# Altium integrated library Linear Technology Power Management LDO Linear Regulators.IntLib: 2339 symbols (part 18 of 131)
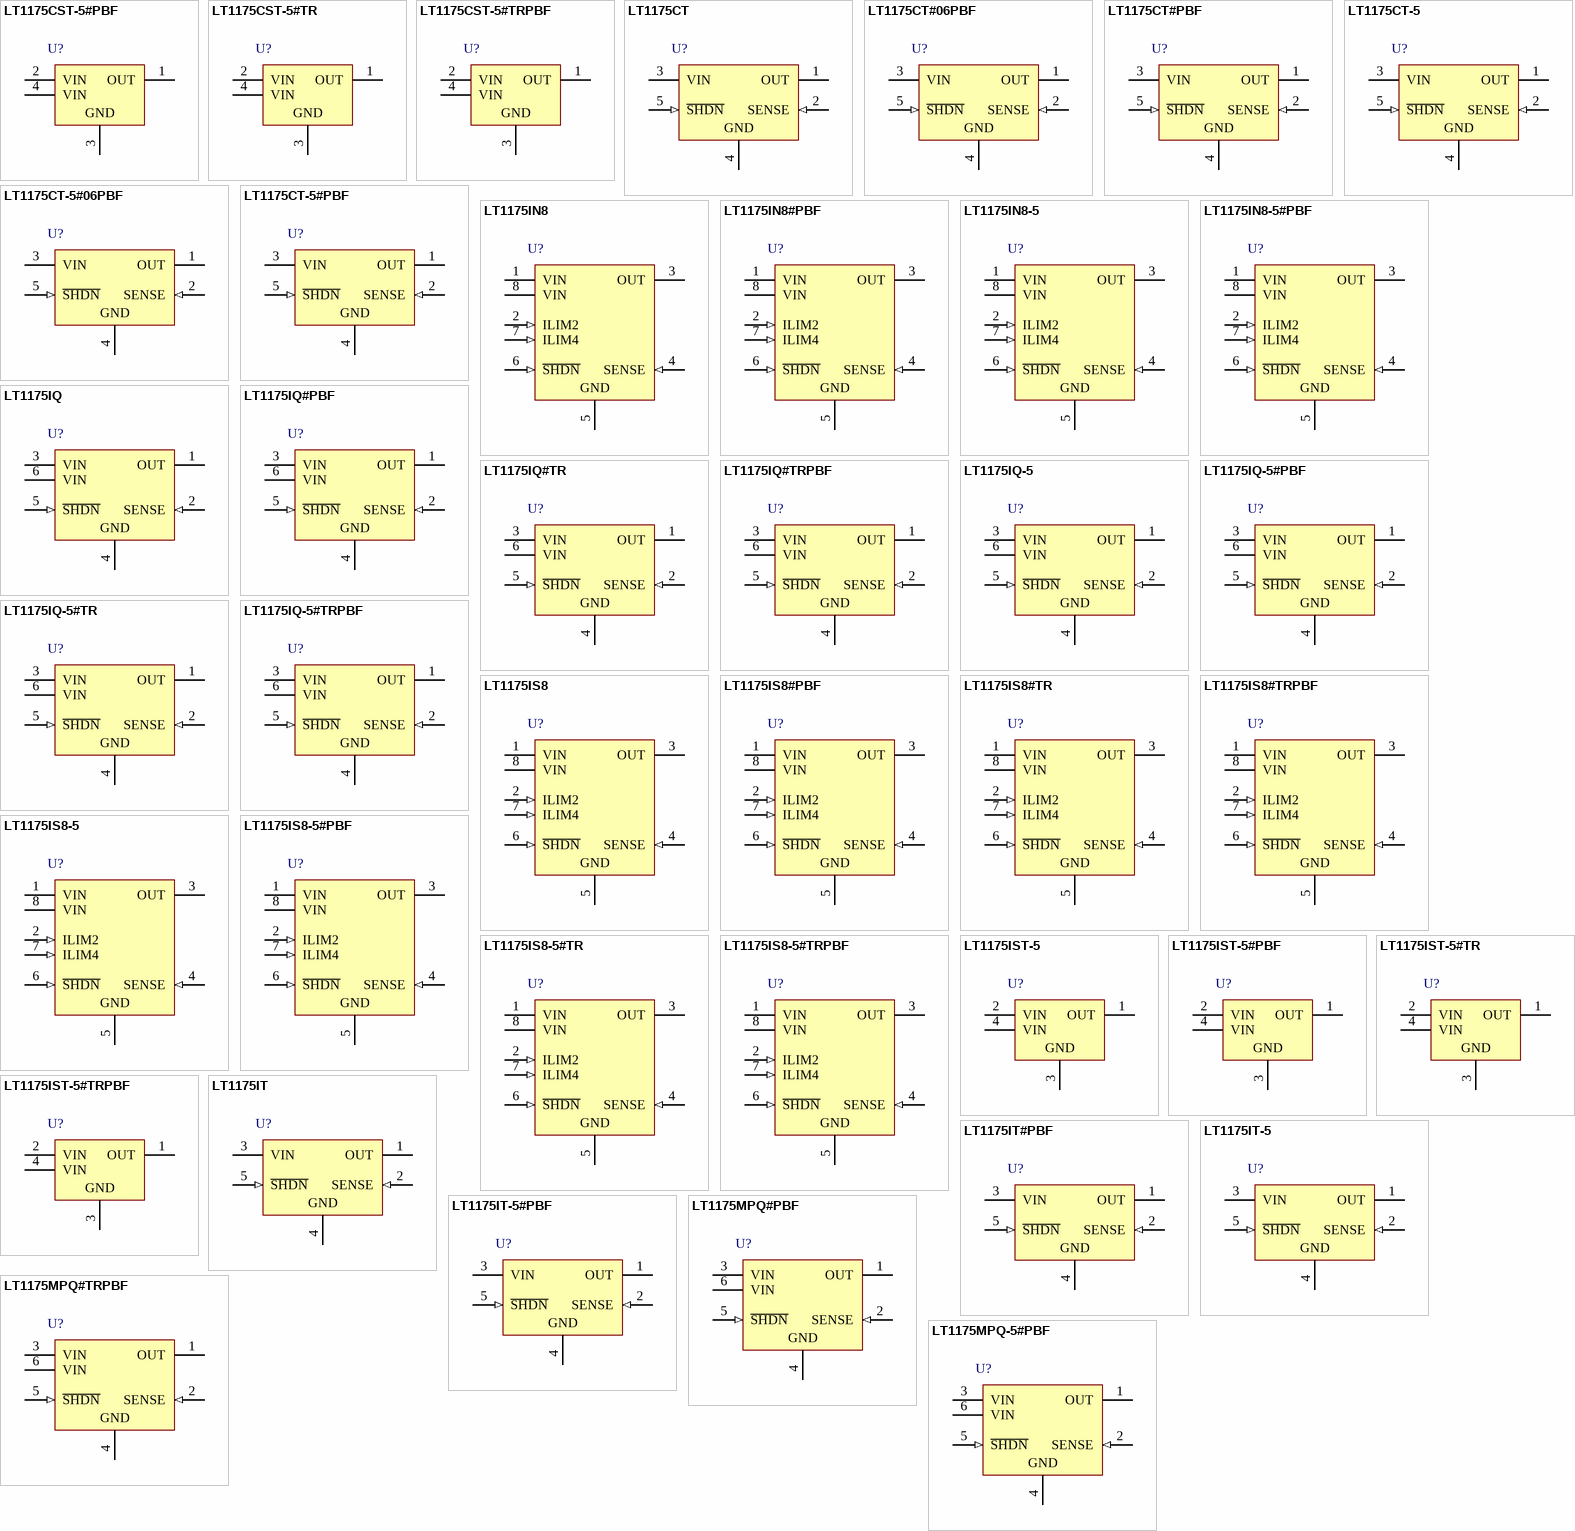
[diagram p86: symbols LT1175CST-5#PBF to LT1175MPQ-5#PBF]

## LT1175IS8-5#TR
designator U?
500 mA Negative Low Dropout Micropower Regulator, -4.3 to -20 V Vin, -5 V Vout, 8-pin SOIC (S8-8), -40 to 125 degC, Tape and Reel; Manufacturer: Linear Technology; PartNumber: LT1175IS8-5#TR; Discrete Pass Element: no; Dropout Voltage(V): 0.5; Iout(mA): 500; Isupply(mA): 0.045; Number of Outputs: 1; Output Voltage: -5 V; Shutdown Current(uA): 10; DatasheetVersion: Rev. F; PackageVersion: Rev. G, 03/2012; PackageReference: S8-8; PackageDescription: 8-Pin Plastic Small Outline (Narrow .150 Inch), Body 4.9 x 3.9 mm, Pitch 1.27 mm; Supplier 1: Digi-Key; Supplier Part Number 1: LT1175IS8-5#TR-ND; Supplier 2: Newark; Supplier Part Number 2: 57M2486; Packing: Tape and Reel; RoHS: FALSE; Vin Max(V): -4.3; Vin Min(V): -20; Mounting Technology: Surface Mount; ComponentLink1Description: Manufacturer URL; ComponentLink1URL: http://www.linear.com/; ComponentLink2Description: Datasheet; ComponentLink2URL: http://cds.linear.com/docs/en/datasheet/1175ff.pdf; ComponentLink3Description: Package Specification; ComponentLink3URL: http://cds.linear.com/docs/en/packaging/05081610_G_SO8.pdf
footprint LT-S8-8_N (SOIC, 8-Leads, Body 4.9x3.9mm, Pitch 1.27mm, IPC Medium Density)
footprint LT-S8-8_L (SOIC, 8-Leads, Body 4.9x3.9mm, Pitch 1.27mm, IPC High Density)
footprint LT-S8-8_M (SOIC, 8-Leads, Body 4.9x3.9mm, Pitch 1.27mm, IPC Low Density)
pins: 1 VIN (power) "Power is supplied to the device through this pin. A bypass  capacitor is required on this pin if the device is more than  six inches away from the main filter capacitor. In general, the impedance of a battery rises with (See Datasheet)", 2 ILIM2 (in) "The two current limit pins are emitter sections of the power transistor. When left open, they float several hundred millivolts  above the negative input voltage. When shorted to the  input voltage, they increase current limit (See Datasheet)", 3 OUT (power) "The OUTPUT pin  is the collector of the NPN power transistor. It can be forced to the input voltage, to ground or up to 2V positive with respect to ground without damage or latchup (see Output  Voltage Reversal in (See Datasheet)", 4 SENSE (in) "The SENSE pin is used in the adjustable version to allow custom selection of output voltage, with an external divider set to generate 3.8V at the SENSE pin. Input bias current is typically 75nA  flowing out of the pin. (See Datasheet)", 5 GND (power) "The GND pin has a quiescent current of 45uA at zero load current, increasing by approximately 10uA per mA of output current. At 500mA output current, GND pin current is about 5mA. Current ?ows into the GND pin.", 6 ~{SHDN} (in) "The S\H\D\N\ pin is  specially configured to allow it to be driven from either positive voltage logic or with negative only logic. Forcing the S\H\D\N\ pin 2V either above or below the GND pin will turn the regulator on. This (See Datasheet)", 7 ILIM4 (in) "The two current limit pins are emitter sections of the power transistor. When left open, they float several hundred millivolts  above the negative input voltage. When shorted to the  input voltage, they increase current limit (See Datasheet)", 8 VIN (power) "Power is supplied to the device through this pin. A bypass  capacitor is required on this pin if the device is more than  six inches away from the main filter capacitor. In general, the impedance of a battery rises with (See Datasheet)"

## LT1175IS8-5#TRPBF
designator U?
500 mA Negative Low Dropout Micropower Regulator, -4.3 to -20 V Vin, -5 V Vout, 8-pin SOIC (S8-8), -40 to 125 degC, Pb-Free, Tape and Reel; Manufacturer: Linear Technology; PartNumber: LT1175IS8-5#TRPBF; Discrete Pass Element: no; Dropout Voltage(V): 0.5; Iout(mA): 500; Isupply(mA): 0.045; Number of Outputs: 1; Output Voltage: -5 V; Shutdown Current(uA): 10; DatasheetVersion: Rev. F; PackageVersion: Rev. G, 03/2012; PackageReference: S8-8; PackageDescription: 8-Pin Plastic Small Outline (Narrow .150 Inch), Body 4.9 x 3.9 mm, Pitch 1.27 mm; Supplier 1: Digi-Key; Supplier Part Number 1: LT1175IS8-5#TRPBF-ND; Supplier 2: Newark; Supplier Part Number 2: 57M2487; Packing: Tape and Reel; RoHS: TRUE; Vin Max(V): -4.3; Vin Min(V): -20; Mounting Technology: Surface Mount; ComponentLink1Description: Manufacturer URL; ComponentLink1URL: http://www.linear.com/; ComponentLink2Description: Datasheet; ComponentLink2URL: http://cds.linear.com/docs/en/datasheet/1175ff.pdf; ComponentLink3Description: Package Specification; ComponentLink3URL: http://cds.linear.com/docs/en/packaging/05081610_G_SO8.pdf
footprint LT-S8-8_N (SOIC, 8-Leads, Body 4.9x3.9mm, Pitch 1.27mm, IPC Medium Density)
footprint LT-S8-8_L (SOIC, 8-Leads, Body 4.9x3.9mm, Pitch 1.27mm, IPC High Density)
footprint LT-S8-8_M (SOIC, 8-Leads, Body 4.9x3.9mm, Pitch 1.27mm, IPC Low Density)
pins: 1 VIN (power) "Power is supplied to the device through this pin. A bypass  capacitor is required on this pin if the device is more than  six inches away from the main filter capacitor. In general, the impedance of a battery rises with (See Datasheet)", 2 ILIM2 (in) "The two current limit pins are emitter sections of the power transistor. When left open, they float several hundred millivolts  above the negative input voltage. When shorted to the  input voltage, they increase current limit (See Datasheet)", 3 OUT (power) "The OUTPUT pin  is the collector of the NPN power transistor. It can be forced to the input voltage, to ground or up to 2V positive with respect to ground without damage or latchup (see Output  Voltage Reversal in (See Datasheet)", 4 SENSE (in) "The SENSE pin is used in the adjustable version to allow custom selection of output voltage, with an external divider set to generate 3.8V at the SENSE pin. Input bias current is typically 75nA  flowing out of the pin. (See Datasheet)", 5 GND (power) "The GND pin has a quiescent current of 45uA at zero load current, increasing by approximately 10uA per mA of output current. At 500mA output current, GND pin current is about 5mA. Current ?ows into the GND pin.", 6 ~{SHDN} (in) "The S\H\D\N\ pin is  specially configured to allow it to be driven from either positive voltage logic or with negative only logic. Forcing the S\H\D\N\ pin 2V either above or below the GND pin will turn the regulator on. This (See Datasheet)", 7 ILIM4 (in) "The two current limit pins are emitter sections of the power transistor. When left open, they float several hundred millivolts  above the negative input voltage. When shorted to the  input voltage, they increase current limit (See Datasheet)", 8 VIN (power) "Power is supplied to the device through this pin. A bypass  capacitor is required on this pin if the device is more than  six inches away from the main filter capacitor. In general, the impedance of a battery rises with (See Datasheet)"

## LT1175IST-5
designator U?
500 mA Negative Low Dropout Micropower Regulator, -4.3 to -20 V Vin, -5 V Vout, 3-pin SOT223 (ST-3), -40 to 125 degC; Manufacturer: Linear Technology; PartNumber: LT1175IST-5; Discrete Pass Element: no; Dropout Voltage(V): 0.5; Iout(mA): 500; Isupply(mA): 0.045; Number of Outputs: 1; Output Voltage: -5 V; Shutdown Current(uA): 10; DatasheetVersion: Rev. F; PackageVersion: Jun-10; PackageReference: ST-3; PackageDescription: 3-Pin Plastic SOT-223, 3.505 x 6.505 mm Body, Pitch 2.3 mm; Supplier 1: Digi-Key; Supplier Part Number 1: LT1175IST-5-ND; Supplier 2: Newark; Supplier Part Number 2: 57M2479; RoHS: FALSE; Vin Max(V): -4.3; Vin Min(V): -20; Mounting Technology: Surface Mount; ComponentLink1Description: Manufacturer URL; ComponentLink1URL: http://www.linear.com/; ComponentLink2Description: Datasheet; ComponentLink2URL: http://cds.linear.com/docs/en/datasheet/1175ff.pdf; ComponentLink3Description: Package Specification; ComponentLink3URL: http://cds.linear.com/docs/en/packaging/SOT_3_05-08-1630.pdf
footprint LT-ST-3-SOT-223_N (SOT223, 4-Leads, Body 6.505x3.505mm, Pitch 2.3mm, IPC Medium Density)
footprint LT-ST-3-SOT-223_L (SOT223, 4-Leads, Body 6.505x3.505mm, Pitch 2.3mm, IPC High Density)
footprint LT-ST-3-SOT-223_M (SOT223, 4-Leads, Body 6.505x3.505mm, Pitch 2.3mm, IPC Low Density)
pins: 1 OUT (power) "The OUTPUT pin is the collector of the NPN power transistor. It can be forced to the input voltage, to ground or up to 2V positive with respect to ground without damage or latchup (see Output Voltage Reversal in Applications (See Datasheet)", 2 VIN (power) "Power is supplied to the device through this pin. A bypass capacitor is required on this pin if the device is more than six inches away from the main filter capacitor. In general, the impedance of a battery rises with (See Datasheet)", 3 GND (power) "The GND pin has a quiescent current of 45uA at zero load current, increasing by approximately 10uA per mA of output current. At 500mA output current, GND pin current is about 5mA. Current flows into the GND pin.", 4 VIN (power) "Power is supplied to the device through this pin. A bypass capacitor is required on this pin if the device is more than six inches away from the main filter capacitor. In general, the impedance of a battery rises with (See Datasheet)"

## LT1175IST-5#PBF
designator U?
500 mA Negative Low Dropout Micropower Regulator, -4.3 to -20 V Vin, -5 V Vout, 3-pin SOT223 (ST-3), -40 to 125 degC, Pb-Free; Manufacturer: Linear Technology; PartNumber: LT1175IST-5#PBF; Discrete Pass Element: no; Dropout Voltage(V): 0.5; Iout(mA): 500; Isupply(mA): 0.045; Number of Outputs: 1; Output Voltage: -5 V; Shutdown Current(uA): 10; DatasheetVersion: Rev. F; PackageVersion: Jun-10; PackageReference: ST-3; PackageDescription: 3-Pin Plastic SOT-223, 3.505 x 6.505 mm Body, Pitch 2.3 mm; Supplier 1: Digi-Key; Supplier Part Number 1: LT1175IST-5#PBF-ND; Supplier 2: Farnell; Supplier Part Number 2: 1663391; Supplier 3: Newark; Supplier Part Number 3: 57M2480; RoHS: TRUE; Vin Max(V): -4.3; Vin Min(V): -20; Mounting Technology: Surface Mount; ComponentLink1Description: Manufacturer URL; ComponentLink1URL: http://www.linear.com/; ComponentLink2Description: Datasheet; ComponentLink2URL: http://cds.linear.com/docs/en/datasheet/1175ff.pdf; ComponentLink3Description: Package Specification; ComponentLink3URL: http://cds.linear.com/docs/en/packaging/SOT_3_05-08-1630.pdf
footprint LT-ST-3-SOT-223_N (SOT223, 4-Leads, Body 6.505x3.505mm, Pitch 2.3mm, IPC Medium Density)
footprint LT-ST-3-SOT-223_L (SOT223, 4-Leads, Body 6.505x3.505mm, Pitch 2.3mm, IPC High Density)
footprint LT-ST-3-SOT-223_M (SOT223, 4-Leads, Body 6.505x3.505mm, Pitch 2.3mm, IPC Low Density)
pins: 1 OUT (power) "The OUTPUT pin is the collector of the NPN power transistor. It can be forced to the input voltage, to ground or up to 2V positive with respect to ground without damage or latchup (see Output Voltage Reversal in Applications (See Datasheet)", 2 VIN (power) "Power is supplied to the device through this pin. A bypass capacitor is required on this pin if the device is more than six inches away from the main filter capacitor. In general, the impedance of a battery rises with (See Datasheet)", 3 GND (power) "The GND pin has a quiescent current of 45uA at zero load current, increasing by approximately 10uA per mA of output current. At 500mA output current, GND pin current is about 5mA. Current flows into the GND pin.", 4 VIN (power) "Power is supplied to the device through this pin. A bypass capacitor is required on this pin if the device is more than six inches away from the main filter capacitor. In general, the impedance of a battery rises with (See Datasheet)"

## LT1175IST-5#TR
designator U?
500 mA Negative Low Dropout Micropower Regulator, -4.3 to -20 V Vin, -5 V Vout, 3-pin SOT223 (ST-3), -40 to 125 degC, Tape and Reel; Manufacturer: Linear Technology; PartNumber: LT1175IST-5#TR; Discrete Pass Element: no; Dropout Voltage(V): 0.5; Iout(mA): 500; Isupply(mA): 0.045; Number of Outputs: 1; Output Voltage: -5 V; Shutdown Current(uA): 10; DatasheetVersion: Rev. F; PackageVersion: Jun-10; PackageReference: ST-3; PackageDescription: 3-Pin Plastic SOT-223, 3.505 x 6.505 mm Body, Pitch 2.3 mm; Supplier 1: Digi-Key; Supplier Part Number 1: LT1175IST-5#TR-ND; Packing: Tape and Reel; RoHS: FALSE; Vin Max(V): -4.3; Vin Min(V): -20; Mounting Technology: Surface Mount; ComponentLink1Description: Manufacturer URL; ComponentLink1URL: http://www.linear.com/; ComponentLink2Description: Datasheet; ComponentLink2URL: http://cds.linear.com/docs/en/datasheet/1175ff.pdf; ComponentLink3Description: Package Specification; ComponentLink3URL: http://cds.linear.com/docs/en/packaging/SOT_3_05-08-1630.pdf
footprint LT-ST-3-SOT-223_N (SOT223, 4-Leads, Body 6.505x3.505mm, Pitch 2.3mm, IPC Medium Density)
footprint LT-ST-3-SOT-223_L (SOT223, 4-Leads, Body 6.505x3.505mm, Pitch 2.3mm, IPC High Density)
footprint LT-ST-3-SOT-223_M (SOT223, 4-Leads, Body 6.505x3.505mm, Pitch 2.3mm, IPC Low Density)
pins: 1 OUT (power) "The OUTPUT pin is the collector of the NPN power transistor. It can be forced to the input voltage, to ground or up to 2V positive with respect to ground without damage or latchup (see Output Voltage Reversal in Applications (See Datasheet)", 2 VIN (power) "Power is supplied to the device through this pin. A bypass capacitor is required on this pin if the device is more than six inches away from the main filter capacitor. In general, the impedance of a battery rises with (See Datasheet)", 3 GND (power) "The GND pin has a quiescent current of 45uA at zero load current, increasing by approximately 10uA per mA of output current. At 500mA output current, GND pin current is about 5mA. Current flows into the GND pin.", 4 VIN (power) "Power is supplied to the device through this pin. A bypass capacitor is required on this pin if the device is more than six inches away from the main filter capacitor. In general, the impedance of a battery rises with (See Datasheet)"

## LT1175IST-5#TRPBF
designator U?
500 mA Negative Low Dropout Micropower Regulator, -4.3 to -20 V Vin, -5 V Vout, 3-pin SOT223 (ST-3), -40 to 125 degC, Pb-Free, Tape and Reel; Manufacturer: Linear Technology; PartNumber: LT1175IST-5#TRPBF; Discrete Pass Element: no; Dropout Voltage(V): 0.5; Iout(mA): 500; Isupply(mA): 0.045; Number of Outputs: 1; Output Voltage: -5 V; Shutdown Current(uA): 10; DatasheetVersion: Rev. F; PackageVersion: Jun-10; PackageReference: ST-3; PackageDescription: 3-Pin Plastic SOT-223, 3.505 x 6.505 mm Body, Pitch 2.3 mm; Supplier 1: Digi-Key; Supplier Part Number 1: LT1175IST-5#TRPBF-ND; Supplier 2: Newark; Supplier Part Number 2: 57M2482; Packing: Tape and Reel; RoHS: TRUE; Vin Max(V): -4.3; Vin Min(V): -20; Mounting Technology: Surface Mount; ComponentLink1Description: Manufacturer URL; ComponentLink1URL: http://www.linear.com/; ComponentLink2Description: Datasheet; ComponentLink2URL: http://cds.linear.com/docs/en/datasheet/1175ff.pdf; ComponentLink3Description: Package Specification; ComponentLink3URL: http://cds.linear.com/docs/en/packaging/SOT_3_05-08-1630.pdf
footprint LT-ST-3-SOT-223_N (SOT223, 4-Leads, Body 6.505x3.505mm, Pitch 2.3mm, IPC Medium Density)
footprint LT-ST-3-SOT-223_L (SOT223, 4-Leads, Body 6.505x3.505mm, Pitch 2.3mm, IPC High Density)
footprint LT-ST-3-SOT-223_M (SOT223, 4-Leads, Body 6.505x3.505mm, Pitch 2.3mm, IPC Low Density)
pins: 1 OUT (power) "The OUTPUT pin is the collector of the NPN power transistor. It can be forced to the input voltage, to ground or up to 2V positive with respect to ground without damage or latchup (see Output Voltage Reversal in Applications (See Datasheet)", 2 VIN (power) "Power is supplied to the device through this pin. A bypass capacitor is required on this pin if the device is more than six inches away from the main filter capacitor. In general, the impedance of a battery rises with (See Datasheet)", 3 GND (power) "The GND pin has a quiescent current of 45uA at zero load current, increasing by approximately 10uA per mA of output current. At 500mA output current, GND pin current is about 5mA. Current flows into the GND pin.", 4 VIN (power) "Power is supplied to the device through this pin. A bypass capacitor is required on this pin if the device is more than six inches away from the main filter capacitor. In general, the impedance of a battery rises with (See Datasheet)"

## LT1175IT
designator U?
500 mA Negative Low Dropout Micropower Regulator, -4.3 to -20 V Vin, Adjustable Vout, 5-pin FM (T-5), -40 to 125 degC; Manufacturer: Linear Technology; PartNumber: LT1175IT; Discrete Pass Element: no; Dropout Voltage(V): 0.5; Iout(mA): 500; Isupply(mA): 0.045; Number of Outputs: 1; Output Voltage: Adj; Shutdown Current(uA): 10; Vout Max(V): -3.8; Vout Min(V): -19.3; DatasheetVersion: Rev. F; PackageVersion: Aug-10; PackageReference: T-5; PackageDescription: 5-Pin Plastic TO-220 (Standard), Body 10.224 x 8.89 mm, Pitch 1.7 mm; Supplier 1: Digi-Key; Supplier Part Number 1: LT1175IT-ND; RoHS: FALSE; Vin Max(V): -4.3; Vin Min(V): -20; Mounting Technology: Through Hole; ComponentLink1Description: Manufacturer URL; ComponentLink1URL: http://www.linear.com/; ComponentLink2Description: Datasheet; ComponentLink2URL: http://cds.linear.com/docs/en/datasheet/1175ff.pdf; ComponentLink3Description: Package Specification; ComponentLink3URL: http://cds.linear.com/docs/en/packaging/TO-220_5_05-08-1421.pdf
footprint LT-T-5-S (FM, 5-Leads, Body 10.2235x4.3815mm, Pitch 1.7mm)
pins: 1 OUT (power) "The OUTPUT pin is the collector of the NPN power transistor. It can be forced to the input voltage, to ground or up to 2V positive with respect to ground without damage or latchup (see Output Voltage Reversal in Applications (See Datasheet)", 2 SENSE (in) "The SENSE pin is used in the adjustable version to allow custom selection of output voltage, with an external divider set to generate 3.8V at the SENSE pin. Input bias current is typically 75nA flowing out of the pin. (See Datasheet)", 3 VIN (power) "Power is supplied to the device through this pin. A bypass capacitor is required on this pin if the device is more than six inches away from the main filter capacitor. In general, the impedance of a battery rises with (See Datasheet)", 4 GND (power) "The GND pin has a quiescent current of 45uA at zero load current, increasing by approximately 10uA per mA of output current. At 500mA output current, GND pin current is about 5mA. Current flows into the GND pin.", 5 ~{SHDN} (in) "The S\H\D\N\ pin is specially configured to allow it to be driven from either positive voltage logic or with negative only logic. Forcing the S\H\D\N\ pin 2V either above or below the GND pin will turn the regulator on. This (See Datasheet)"

## LT1175IT#PBF
designator U?
500 mA Negative Low Dropout Micropower Regulator, -4.3 to -20 V Vin, Adjustable Vout, 5-pin FM (T-5), -40 to 125 degC, Pb-Free; Manufacturer: Linear Technology; PartNumber: LT1175IT#PBF; Discrete Pass Element: no; Dropout Voltage(V): 0.5; Iout(mA): 500; Isupply(mA): 0.045; Number of Outputs: 1; Output Voltage: Adj; Shutdown Current(uA): 10; Vout Max(V): -3.8; Vout Min(V): -19.3; DatasheetVersion: Rev. F; PackageVersion: Aug-10; PackageReference: T-5; PackageDescription: 5-Pin Plastic TO-220 (Standard), Body 10.224 x 8.89 mm, Pitch 1.7 mm; Supplier 1: Digi-Key; Supplier Part Number 1: LT1175IT#PBF-ND; Supplier 2: Newark; Supplier Part Number 2: 57M2494; RoHS: TRUE; Vin Max(V): -4.3; Vin Min(V): -20; Mounting Technology: Through Hole; ComponentLink1Description: Manufacturer URL; ComponentLink1URL: http://www.linear.com/; ComponentLink2Description: Datasheet; ComponentLink2URL: http://cds.linear.com/docs/en/datasheet/1175ff.pdf; ComponentLink3Description: Package Specification; ComponentLink3URL: http://cds.linear.com/docs/en/packaging/TO-220_5_05-08-1421.pdf
footprint LT-T-5-S (FM, 5-Leads, Body 10.2235x4.3815mm, Pitch 1.7mm)
pins: 1 OUT (power) "The OUTPUT pin is the collector of the NPN power transistor. It can be forced to the input voltage, to ground or up to 2V positive with respect to ground without damage or latchup (see Output Voltage Reversal in Applications (See Datasheet)", 2 SENSE (in) "The SENSE pin is used in the adjustable version to allow custom selection of output voltage, with an external divider set to generate 3.8V at the SENSE pin. Input bias current is typically 75nA flowing out of the pin. (See Datasheet)", 3 VIN (power) "Power is supplied to the device through this pin. A bypass capacitor is required on this pin if the device is more than six inches away from the main filter capacitor. In general, the impedance of a battery rises with (See Datasheet)", 4 GND (power) "The GND pin has a quiescent current of 45uA at zero load current, increasing by approximately 10uA per mA of output current. At 500mA output current, GND pin current is about 5mA. Current flows into the GND pin.", 5 ~{SHDN} (in) "The S\H\D\N\ pin is specially configured to allow it to be driven from either positive voltage logic or with negative only logic. Forcing the S\H\D\N\ pin 2V either above or below the GND pin will turn the regulator on. This (See Datasheet)"

## LT1175IT-5
designator U?
500 mA Negative Low Dropout Micropower Regulator, -4.3 to -20 V Vin, -5 V Vout, 5-pin FM (T-5), -40 to 125 degC; Manufacturer: Linear Technology; PartNumber: LT1175IT-5; Discrete Pass Element: no; Dropout Voltage(V): 0.5; Iout(mA): 500; Isupply(mA): 0.045; Number of Outputs: 1; Output Voltage: -5 V; Shutdown Current(uA): 10; DatasheetVersion: Rev. F; PackageVersion: Aug-10; PackageReference: T-5; PackageDescription: 5-Pin Plastic TO-220 (Standard), Body 10.224 x 8.89 mm, Pitch 1.7 mm; Supplier 1: Digi-Key; Supplier Part Number 1: LT1175IT-5-ND; RoHS: FALSE; Vin Max(V): -4.3; Vin Min(V): -20; Mounting Technology: Through Hole; ComponentLink1Description: Manufacturer URL; ComponentLink1URL: http://www.linear.com/; ComponentLink2Description: Datasheet; ComponentLink2URL: http://cds.linear.com/docs/en/datasheet/1175ff.pdf; ComponentLink3Description: Package Specification; ComponentLink3URL: http://cds.linear.com/docs/en/packaging/TO-220_5_05-08-1421.pdf
footprint LT-T-5-S (FM, 5-Leads, Body 10.2235x4.3815mm, Pitch 1.7mm)
pins: 1 OUT (power) "The OUTPUT pin is the collector of the NPN power transistor. It can be forced to the input voltage, to ground or up to 2V positive with respect to ground without damage or latchup (see Output Voltage Reversal in Applications (See Datasheet)", 2 SENSE (in) "The SENSE pin is used in the adjustable version to allow custom selection of output voltage, with an external divider set to generate 3.8V at the SENSE pin. Input bias current is typically 75nA flowing out of the pin. (See Datasheet)", 3 VIN (power) "Power is supplied to the device through this pin. A bypass capacitor is required on this pin if the device is more than six inches away from the main filter capacitor. In general, the impedance of a battery rises with (See Datasheet)", 4 GND (power) "The GND pin has a quiescent current of 45uA at zero load current, increasing by approximately 10uA per mA of output current. At 500mA output current, GND pin current is about 5mA. Current flows into the GND pin.", 5 ~{SHDN} (in) "The S\H\D\N\ pin is specially configured to allow it to be driven from either positive voltage logic or with negative only logic. Forcing the S\H\D\N\ pin 2V either above or below the GND pin will turn the regulator on. This (See Datasheet)"

## LT1175IT-5#PBF
designator U?
500 mA Negative Low Dropout Micropower Regulator, -4.3 to -20 V Vin, -5 V Vout, 5-pin FM (T-5), -40 to 125 degC, Pb-Free; Manufacturer: Linear Technology; PartNumber: LT1175IT-5#PBF; Discrete Pass Element: no; Dropout Voltage(V): 0.5; Iout(mA): 500; Isupply(mA): 0.045; Number of Outputs: 1; Output Voltage: -5 V; Shutdown Current(uA): 10; DatasheetVersion: Rev. F; PackageVersion: Aug-10; PackageReference: T-5; PackageDescription: 5-Pin Plastic TO-220 (Standard), Body 10.224 x 8.89 mm, Pitch 1.7 mm; Supplier 1: Digi-Key; Supplier Part Number 1: LT1175IT-5#PBF-ND; RoHS: TRUE; Vin Max(V): -4.3; Vin Min(V): -20; Mounting Technology: Through Hole; ComponentLink1Description: Manufacturer URL; ComponentLink1URL: http://www.linear.com/; ComponentLink2Description: Datasheet; ComponentLink2URL: http://cds.linear.com/docs/en/datasheet/1175ff.pdf; ComponentLink3Description: Package Specification; ComponentLink3URL: http://cds.linear.com/docs/en/packaging/TO-220_5_05-08-1421.pdf
footprint LT-T-5-S (FM, 5-Leads, Body 10.2235x4.3815mm, Pitch 1.7mm)
pins: 1 OUT (power) "The OUTPUT pin is the collector of the NPN power transistor. It can be forced to the input voltage, to ground or up to 2V positive with respect to ground without damage or latchup (see Output Voltage Reversal in Applications (See Datasheet)", 2 SENSE (in) "The SENSE pin is used in the adjustable version to allow custom selection of output voltage, with an external divider set to generate 3.8V at the SENSE pin. Input bias current is typically 75nA flowing out of the pin. (See Datasheet)", 3 VIN (power) "Power is supplied to the device through this pin. A bypass capacitor is required on this pin if the device is more than six inches away from the main filter capacitor. In general, the impedance of a battery rises with (See Datasheet)", 4 GND (power) "The GND pin has a quiescent current of 45uA at zero load current, increasing by approximately 10uA per mA of output current. At 500mA output current, GND pin current is about 5mA. Current flows into the GND pin.", 5 ~{SHDN} (in) "The S\H\D\N\ pin is specially configured to allow it to be driven from either positive voltage logic or with negative only logic. Forcing the S\H\D\N\ pin 2V either above or below the GND pin will turn the regulator on. This (See Datasheet)"

## LT1175MPQ#PBF
designator U?
500 mA Negative Low Dropout Micropower Regulator, -4.3 to -20 V Vin, Adjustable Vout, 5-pin DPAK (Q-5), -55 to 125 degC, Pb-Free; Manufacturer: Linear Technology; PartNumber: LT1175MPQ#PBF; Discrete Pass Element: no; Dropout Voltage(V): 0.5; Iout(mA): 500; Isupply(mA): 0.045; Number of Outputs: 1; Output Voltage: Adj; Shutdown Current(uA): 10; Vout Max(V): -3.8; Vout Min(V): -19.3; DatasheetVersion: Rev. F; PackageVersion: Rev. F, 09/2011; PackageReference: Q-5; PackageDescription: 5-Pin Plastic DD Pak, Body 10.2235 x 8.89 mm, Pitch 1.702 mm; Supplier 1: Digi-Key; Supplier Part Number 1: LT1175MPQ#PBF-ND; Supplier 2: Farnell; Supplier Part Number 2: 1847481; Supplier 3: Newark; Supplier Part Number 3: 84R5017; RoHS: TRUE; Vin Max(V): -4.3; Vin Min(V): -20; Mounting Technology: Surface Mount; ComponentLink1Description: Manufacturer URL; ComponentLink1URL: http://www.linear.com/; ComponentLink2Description: Datasheet; ComponentLink2URL: http://cds.linear.com/docs/en/datasheet/1175ff.pdf; ComponentLink3Description: Package Specification; ComponentLink3URL: http://cds.linear.com/docs/en/packaging/Q%20DD5%2005-08-1461%20Rev%20F.pdf
footprint LT-Q-5_N (DPAK, 5-Leads, Body 10.22x8.89mm, Pitch 1.702mm, IPC Medium Density)
footprint LT-Q-5_L (DPAK, 5-Leads, Body 10.22x8.89mm, Pitch 1.702mm, IPC High Density)
footprint LT-Q-5_M (DPAK, 5-Leads, Body 10.22x8.89mm, Pitch 1.702mm, IPC Low Density)
pins: 1 OUT (power) "The OUTPUT pin is the collector of the NPN power transistor. It can be forced to the input voltage, to ground or up to 2V positive with respect to ground without damage or latchup (see Output Voltage Reversal in Applications (See Datasheet)", 2 SENSE (in) "The SENSE pin is used in the adjustable version to allow custom selection of output voltage, with an external divider set to generate 3.8V at the SENSE pin. Input bias current is typically 75nA flowing out of the pin. (See Datasheet)", 3 VIN (power) "Power is supplied to the device through this pin. A bypass capacitor is required on this pin if the device is more than six inches away from the main filter capacitor. In general, the impedance of a battery rises with (See Datasheet)", 4 GND (power) "The GND pin has a quiescent current of 45uA at zero load current, increasing by approximately 10uA per mA of output current. At 500mA output current, GND pin current is about 5mA. Current flows into the GND pin.", 5 ~{SHDN} (in) "The S\H\D\N\ pin is specially configured to allow it to be driven from either positive voltage logic or with negative only logic. Forcing the S\H\D\N\ pin 2V either above or below the GND pin will turn the regulator on. This (See Datasheet)", 6 VIN (power) "Power is supplied to the device through this pin. A bypass capacitor is required on this pin if the device is more than six inches away from the main filter capacitor. In general, the impedance of a battery rises with (See Datasheet)"

## LT1175MPQ#TRPBF
designator U?
500 mA Negative Low Dropout Micropower Regulator, -4.3 to -20 V Vin, Adjustable Vout, 5-pin DPAK (Q-5), -55 to 125 degC, Pb-Free, Tape and Reel; Manufacturer: Linear Technology; PartNumber: LT1175MPQ#TRPBF; Discrete Pass Element: no; Dropout Voltage(V): 0.5; Iout(mA): 500; Isupply(mA): 0.045; Number of Outputs: 1; Output Voltage: Adj; Shutdown Current(uA): 10; Vout Max(V): -3.8; Vout Min(V): -19.3; DatasheetVersion: Rev. F; PackageVersion: Rev. F, 09/2011; PackageReference: Q-5; PackageDescription: 5-Pin Plastic DD Pak, Body 10.2235 x 8.89 mm, Pitch 1.702 mm; Supplier 1: Digi-Key; Supplier Part Number 1: LT1175MPQ#TRPBF-ND; Packing: Tape and Reel; RoHS: TRUE; Vin Max(V): -4.3; Vin Min(V): -20; Mounting Technology: Surface Mount; ComponentLink1Description: Manufacturer URL; ComponentLink1URL: http://www.linear.com/; ComponentLink2Description: Datasheet; ComponentLink2URL: http://cds.linear.com/docs/en/datasheet/1175ff.pdf; ComponentLink3Description: Package Specification; ComponentLink3URL: http://cds.linear.com/docs/en/packaging/Q%20DD5%2005-08-1461%20Rev%20F.pdf
footprint LT-Q-5_N (DPAK, 5-Leads, Body 10.22x8.89mm, Pitch 1.702mm, IPC Medium Density)
footprint LT-Q-5_L (DPAK, 5-Leads, Body 10.22x8.89mm, Pitch 1.702mm, IPC High Density)
footprint LT-Q-5_M (DPAK, 5-Leads, Body 10.22x8.89mm, Pitch 1.702mm, IPC Low Density)
pins: 1 OUT (power) "The OUTPUT pin is the collector of the NPN power transistor. It can be forced to the input voltage, to ground or up to 2V positive with respect to ground without damage or latchup (see Output Voltage Reversal in Applications (See Datasheet)", 2 SENSE (in) "The SENSE pin is used in the adjustable version to allow custom selection of output voltage, with an external divider set to generate 3.8V at the SENSE pin. Input bias current is typically 75nA flowing out of the pin. (See Datasheet)", 3 VIN (power) "Power is supplied to the device through this pin. A bypass capacitor is required on this pin if the device is more than six inches away from the main filter capacitor. In general, the impedance of a battery rises with (See Datasheet)", 4 GND (power) "The GND pin has a quiescent current of 45uA at zero load current, increasing by approximately 10uA per mA of output current. At 500mA output current, GND pin current is about 5mA. Current flows into the GND pin.", 5 ~{SHDN} (in) "The S\H\D\N\ pin is specially configured to allow it to be driven from either positive voltage logic or with negative only logic. Forcing the S\H\D\N\ pin 2V either above or below the GND pin will turn the regulator on. This (See Datasheet)", 6 VIN (power) "Power is supplied to the device through this pin. A bypass capacitor is required on this pin if the device is more than six inches away from the main filter capacitor. In general, the impedance of a battery rises with (See Datasheet)"

## LT1175MPQ-5#PBF
designator U?
500 mA Negative Low Dropout Micropower Regulator, -4.3 to -20 V Vin, -5 V Vout, 5-pin DPAK (Q-5), -55 to 125 degC, Pb-Free; Manufacturer: Linear Technology; PartNumber: LT1175MPQ-5#PBF; Discrete Pass Element: no; Dropout Voltage(V): 0.5; Iout(mA): 500; Isupply(mA): 0.045; Number of Outputs: 1; Output Voltage: -5 V; Shutdown Current(uA): 10; DatasheetVersion: Rev. F; PackageVersion: Rev. F, 09/2011; PackageReference: Q-5; PackageDescription: 5-Pin Plastic DD Pak, Body 10.2235 x 8.89 mm, Pitch 1.702 mm; Supplier 1: Digi-Key; Supplier Part Number 1: LT1175MPQ-5#PBF-ND; Supplier 2: Farnell; Supplier Part Number 2: 1847482; Supplier 3: Newark; Supplier Part Number 3: 84R5015; RoHS: TRUE; Vin Max(V): -4.3; Vin Min(V): -20; Mounting Technology: Surface Mount; ComponentLink1Description: Manufacturer URL; ComponentLink1URL: http://www.linear.com/; ComponentLink2Description: Datasheet; ComponentLink2URL: http://cds.linear.com/docs/en/datasheet/1175ff.pdf; ComponentLink3Description: Package Specification; ComponentLink3URL: http://cds.linear.com/docs/en/packaging/Q%20DD5%2005-08-1461%20Rev%20F.pdf
footprint LT-Q-5_N (DPAK, 5-Leads, Body 10.22x8.89mm, Pitch 1.702mm, IPC Medium Density)
footprint LT-Q-5_L (DPAK, 5-Leads, Body 10.22x8.89mm, Pitch 1.702mm, IPC High Density)
footprint LT-Q-5_M (DPAK, 5-Leads, Body 10.22x8.89mm, Pitch 1.702mm, IPC Low Density)
pins: 1 OUT (power) "The OUTPUT pin is the collector of the NPN power transistor. It can be forced to the input voltage, to ground or up to 2V positive with respect to ground without damage or latchup (see Output Voltage Reversal in Applications (See Datasheet)", 2 SENSE (in) "The SENSE pin is used in the adjustable version to allow custom selection of output voltage, with an external divider set to generate 3.8V at the SENSE pin. Input bias current is typically 75nA flowing out of the pin. (See Datasheet)", 3 VIN (power) "Power is supplied to the device through this pin. A bypass capacitor is required on this pin if the device is more than six inches away from the main filter capacitor. In general, the impedance of a battery rises with (See Datasheet)", 4 GND (power) "The GND pin has a quiescent current of 45uA at zero load current, increasing by approximately 10uA per mA of output current. At 500mA output current, GND pin current is about 5mA. Current flows into the GND pin.", 5 ~{SHDN} (in) "The S\H\D\N\ pin is specially configured to allow it to be driven from either positive voltage logic or with negative only logic. Forcing the S\H\D\N\ pin 2V either above or below the GND pin will turn the regulator on. This (See Datasheet)", 6 VIN (power) "Power is supplied to the device through this pin. A bypass capacitor is required on this pin if the device is more than six inches away from the main filter capacitor. In general, the impedance of a battery rises with (See Datasheet)"

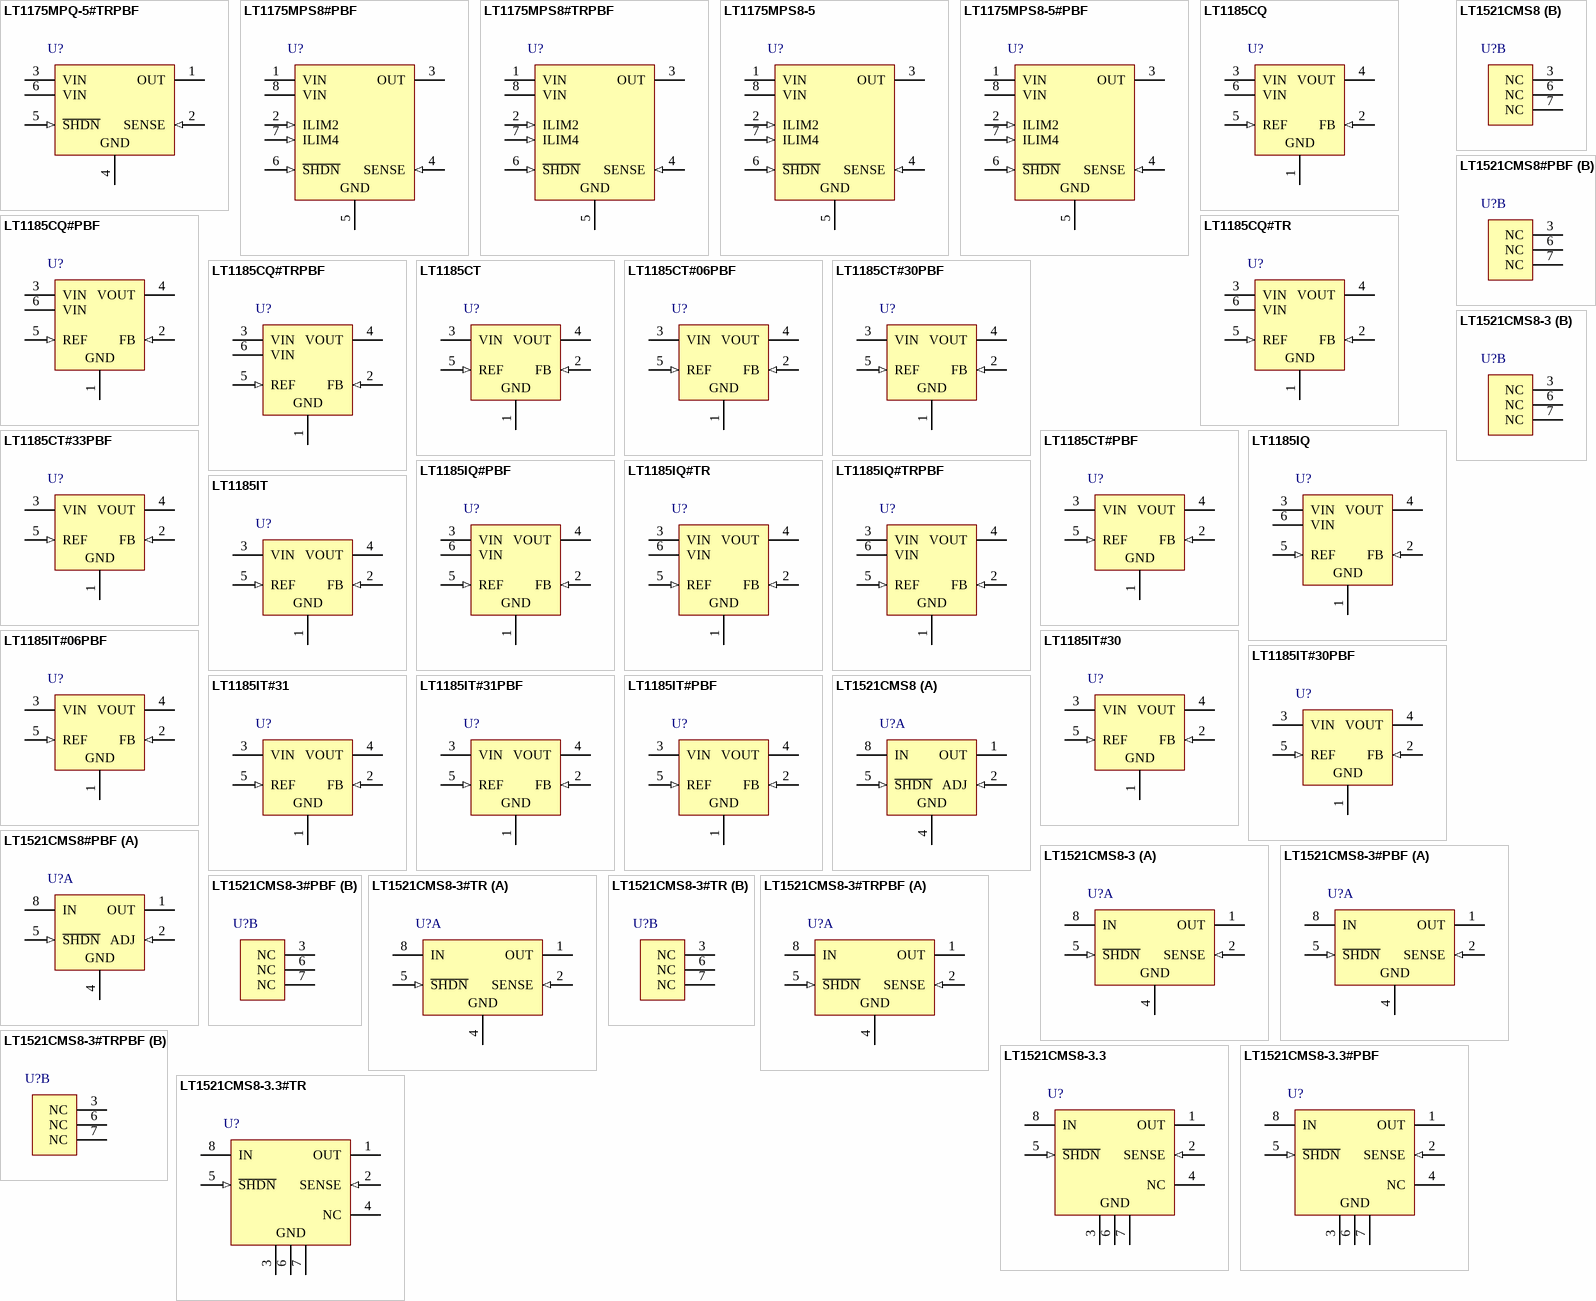
[diagram p13: symbols LT1175MPQ-5#TRPBF to LT1521CMS8-3.3#TR]

## LT1175MPQ-5#TRPBF
designator U?
500 mA Negative Low Dropout Micropower Regulator, -4.3 to -20 V Vin, -5 V Vout, 5-pin DPAK (Q-5), -55 to 125 degC, Pb-Free, Tape and Reel; Manufacturer: Linear Technology; PartNumber: LT1175MPQ-5#TRPBF; Discrete Pass Element: no; Dropout Voltage(V): 0.5; Iout(mA): 500; Isupply(mA): 0.045; Number of Outputs: 1; Output Voltage: -5 V; Shutdown Current(uA): 10; DatasheetVersion: Rev. F; PackageVersion: Rev. F, 09/2011; PackageReference: Q-5; PackageDescription: 5-Pin Plastic DD Pak, Body 10.2235 x 8.89 mm, Pitch 1.702 mm; Supplier 1: Digi-Key; Supplier Part Number 1: LT1175MPQ-5#TRPBF-ND; Packing: Tape and Reel; RoHS: TRUE; Vin Max(V): -4.3; Vin Min(V): -20; Mounting Technology: Surface Mount; ComponentLink1Description: Manufacturer URL; ComponentLink1URL: http://www.linear.com/; ComponentLink2Description: Datasheet; ComponentLink2URL: http://cds.linear.com/docs/en/datasheet/1175ff.pdf; ComponentLink3Description: Package Specification; ComponentLink3URL: http://cds.linear.com/docs/en/packaging/Q%20DD5%2005-08-1461%20Rev%20F.pdf
footprint LT-Q-5_N (DPAK, 5-Leads, Body 10.22x8.89mm, Pitch 1.702mm, IPC Medium Density)
footprint LT-Q-5_L (DPAK, 5-Leads, Body 10.22x8.89mm, Pitch 1.702mm, IPC High Density)
footprint LT-Q-5_M (DPAK, 5-Leads, Body 10.22x8.89mm, Pitch 1.702mm, IPC Low Density)
pins: 1 OUT (power) "The OUTPUT pin is the collector of the NPN power transistor. It can be forced to the input voltage, to ground or up to 2V positive with respect to ground without damage or latchup (see Output Voltage Reversal in Applications (See Datasheet)", 2 SENSE (in) "The SENSE pin is used in the adjustable version to allow custom selection of output voltage, with an external divider set to generate 3.8V at the SENSE pin. Input bias current is typically 75nA flowing out of the pin. (See Datasheet)", 3 VIN (power) "Power is supplied to the device through this pin. A bypass capacitor is required on this pin if the device is more than six inches away from the main filter capacitor. In general, the impedance of a battery rises with (See Datasheet)", 4 GND (power) "The GND pin has a quiescent current of 45uA at zero load current, increasing by approximately 10uA per mA of output current. At 500mA output current, GND pin current is about 5mA. Current flows into the GND pin.", 5 ~{SHDN} (in) "The S\H\D\N\ pin is specially configured to allow it to be driven from either positive voltage logic or with negative only logic. Forcing the S\H\D\N\ pin 2V either above or below the GND pin will turn the regulator on. This (See Datasheet)", 6 VIN (power) "Power is supplied to the device through this pin. A bypass capacitor is required on this pin if the device is more than six inches away from the main filter capacitor. In general, the impedance of a battery rises with (See Datasheet)"

## LT1175MPS8#PBF
designator U?
500 mA Negative Low Dropout Micropower Regulator, -4.3 to -20 V Vin, Adjustable Vout, 8-pin SOIC (S8-8), -55 to 125 degC, Pb-Free; Manufacturer: Linear Technology; PartNumber: LT1175MPS8#PBF; Discrete Pass Element: no; Dropout Voltage(V): 0.5; Iout(mA): 500; Isupply(mA): 0.045; Number of Outputs: 1; Output Voltage: Adj; Shutdown Current(uA): 10; Vout Max(V): -3.8; Vout Min(V): -19.3; DatasheetVersion: Rev. F; PackageVersion: Rev. G, 03/2012; PackageReference: S8-8; PackageDescription: 8-Pin Plastic Small Outline (Narrow .150 Inch), Body 4.9 x 3.9 mm, Pitch 1.27 mm; Supplier 1: Digi-Key; Supplier Part Number 1: LT1175MPS8#PBF-ND; Supplier 2: Farnell; Supplier Part Number 2: 1847489; Supplier 3: Newark; Supplier Part Number 3: 84R5021; RoHS: TRUE; Vin Max(V): -4.3; Vin Min(V): -20; Mounting Technology: Surface Mount; ComponentLink1Description: Manufacturer URL; ComponentLink1URL: http://www.linear.com/; ComponentLink2Description: Datasheet; ComponentLink2URL: http://cds.linear.com/docs/en/datasheet/1175ff.pdf; ComponentLink3Description: Package Specification; ComponentLink3URL: http://cds.linear.com/docs/en/packaging/05081610_G_SO8.pdf
footprint LT-S8-8_N (SOIC, 8-Leads, Body 4.9x3.9mm, Pitch 1.27mm, IPC Medium Density)
footprint LT-S8-8_L (SOIC, 8-Leads, Body 4.9x3.9mm, Pitch 1.27mm, IPC High Density)
footprint LT-S8-8_M (SOIC, 8-Leads, Body 4.9x3.9mm, Pitch 1.27mm, IPC Low Density)
pins: 1 VIN (power) "Power is supplied to the device through this pin. A bypass  capacitor is required on this pin if the device is more than  six inches away from the main filter capacitor. In general, the impedance of a battery rises with (See Datasheet)", 2 ILIM2 (in) "The two current limit pins are emitter sections of the power transistor. When left open, they float several hundred millivolts  above the negative input voltage. When shorted to the  input voltage, they increase current limit (See Datasheet)", 3 OUT (power) "The OUTPUT pin  is the collector of the NPN power transistor. It can be forced to the input voltage, to ground or up to 2V positive with respect to ground without damage or latchup (see Output  Voltage Reversal in (See Datasheet)", 4 SENSE (in) "The SENSE pin is used in the adjustable version to allow custom selection of output voltage, with an external divider set to generate 3.8V at the SENSE pin. Input bias current is typically 75nA  flowing out of the pin. (See Datasheet)", 5 GND (power) "The GND pin has a quiescent current of 45uA at zero load current, increasing by approximately 10uA per mA of output current. At 500mA output current, GND pin current is about 5mA. Current ?ows into the GND pin.", 6 ~{SHDN} (in) "The S\H\D\N\ pin is  specially configured to allow it to be driven from either positive voltage logic or with negative only logic. Forcing the S\H\D\N\ pin 2V either above or below the GND pin will turn the regulator on. This (See Datasheet)", 7 ILIM4 (in) "The two current limit pins are emitter sections of the power transistor. When left open, they float several hundred millivolts  above the negative input voltage. When shorted to the  input voltage, they increase current limit (See Datasheet)", 8 VIN (power) "Power is supplied to the device through this pin. A bypass  capacitor is required on this pin if the device is more than  six inches away from the main filter capacitor. In general, the impedance of a battery rises with (See Datasheet)"

## LT1175MPS8#TRPBF
designator U?
500 mA Negative Low Dropout Micropower Regulator, -4.3 to -20 V Vin, Adjustable Vout, 8-pin SOIC (S8-8), -55 to 125 degC, Pb-Free, Tape and Reel; Manufacturer: Linear Technology; PartNumber: LT1175MPS8#TRPBF; Discrete Pass Element: no; Dropout Voltage(V): 0.5; Iout(mA): 500; Isupply(mA): 0.045; Number of Outputs: 1; Output Voltage: Adj; Shutdown Current(uA): 10; Vout Max(V): -3.8; Vout Min(V): -19.3; DatasheetVersion: Rev. F; PackageVersion: Rev. G, 03/2012; PackageReference: S8-8; PackageDescription: 8-Pin Plastic Small Outline (Narrow .150 Inch), Body 4.9 x 3.9 mm, Pitch 1.27 mm; Supplier 1: Digi-Key; Supplier Part Number 1: LT1175MPS8#TRPBF-ND; Packing: Tape and Reel; RoHS: TRUE; Vin Max(V): -4.3; Vin Min(V): -20; Mounting Technology: Surface Mount; ComponentLink1Description: Manufacturer URL; ComponentLink1URL: http://www.linear.com/; ComponentLink2Description: Datasheet; ComponentLink2URL: http://cds.linear.com/docs/en/datasheet/1175ff.pdf; ComponentLink3Description: Package Specification; ComponentLink3URL: http://cds.linear.com/docs/en/packaging/05081610_G_SO8.pdf
footprint LT-S8-8_N (SOIC, 8-Leads, Body 4.9x3.9mm, Pitch 1.27mm, IPC Medium Density)
footprint LT-S8-8_L (SOIC, 8-Leads, Body 4.9x3.9mm, Pitch 1.27mm, IPC High Density)
footprint LT-S8-8_M (SOIC, 8-Leads, Body 4.9x3.9mm, Pitch 1.27mm, IPC Low Density)
pins: 1 VIN (power) "Power is supplied to the device through this pin. A bypass  capacitor is required on this pin if the device is more than  six inches away from the main filter capacitor. In general, the impedance of a battery rises with (See Datasheet)", 2 ILIM2 (in) "The two current limit pins are emitter sections of the power transistor. When left open, they float several hundred millivolts  above the negative input voltage. When shorted to the  input voltage, they increase current limit (See Datasheet)", 3 OUT (power) "The OUTPUT pin  is the collector of the NPN power transistor. It can be forced to the input voltage, to ground or up to 2V positive with respect to ground without damage or latchup (see Output  Voltage Reversal in (See Datasheet)", 4 SENSE (in) "The SENSE pin is used in the adjustable version to allow custom selection of output voltage, with an external divider set to generate 3.8V at the SENSE pin. Input bias current is typically 75nA  flowing out of the pin. (See Datasheet)", 5 GND (power) "The GND pin has a quiescent current of 45uA at zero load current, increasing by approximately 10uA per mA of output current. At 500mA output current, GND pin current is about 5mA. Current ?ows into the GND pin.", 6 ~{SHDN} (in) "The S\H\D\N\ pin is  specially configured to allow it to be driven from either positive voltage logic or with negative only logic. Forcing the S\H\D\N\ pin 2V either above or below the GND pin will turn the regulator on. This (See Datasheet)", 7 ILIM4 (in) "The two current limit pins are emitter sections of the power transistor. When left open, they float several hundred millivolts  above the negative input voltage. When shorted to the  input voltage, they increase current limit (See Datasheet)", 8 VIN (power) "Power is supplied to the device through this pin. A bypass  capacitor is required on this pin if the device is more than  six inches away from the main filter capacitor. In general, the impedance of a battery rises with (See Datasheet)"

## LT1175MPS8-5
designator U?
500 mA Negative Low Dropout Micropower Regulator, -4.3 to -20 V Vin, -5 V Vout, 8-pin SOIC (S8-8), -55 to 125 degC; Manufacturer: Linear Technology; PartNumber: LT1175MPS8-5; Discrete Pass Element: no; Dropout Voltage(V): 0.5; Iout(mA): 500; Isupply(mA): 0.045; Number of Outputs: 1; Output Voltage: -5 V; Shutdown Current(uA): 10; DatasheetVersion: Rev. F; PackageVersion: Rev. G, 03/2012; PackageReference: S8-8; PackageDescription: 8-Pin Plastic Small Outline (Narrow .150 Inch), Body 4.9 x 3.9 mm, Pitch 1.27 mm; RoHS: FALSE; Vin Max(V): -4.3; Vin Min(V): -20; Mounting Technology: Surface Mount; ComponentLink1Description: Manufacturer URL; ComponentLink1URL: http://www.linear.com/; ComponentLink2Description: Datasheet; ComponentLink2URL: http://cds.linear.com/docs/en/datasheet/1175ff.pdf; ComponentLink3Description: Package Specification; ComponentLink3URL: http://cds.linear.com/docs/en/packaging/05081610_G_SO8.pdf
footprint LT-S8-8_N (SOIC, 8-Leads, Body 4.9x3.9mm, Pitch 1.27mm, IPC Medium Density)
footprint LT-S8-8_L (SOIC, 8-Leads, Body 4.9x3.9mm, Pitch 1.27mm, IPC High Density)
footprint LT-S8-8_M (SOIC, 8-Leads, Body 4.9x3.9mm, Pitch 1.27mm, IPC Low Density)
pins: 1 VIN (power) "Power is supplied to the device through this pin. A bypass  capacitor is required on this pin if the device is more than  six inches away from the main filter capacitor. In general, the impedance of a battery rises with (See Datasheet)", 2 ILIM2 (in) "The two current limit pins are emitter sections of the power transistor. When left open, they float several hundred millivolts  above the negative input voltage. When shorted to the  input voltage, they increase current limit (See Datasheet)", 3 OUT (power) "The OUTPUT pin  is the collector of the NPN power transistor. It can be forced to the input voltage, to ground or up to 2V positive with respect to ground without damage or latchup (see Output  Voltage Reversal in (See Datasheet)", 4 SENSE (in) "The SENSE pin is used in the adjustable version to allow custom selection of output voltage, with an external divider set to generate 3.8V at the SENSE pin. Input bias current is typically 75nA  flowing out of the pin. (See Datasheet)", 5 GND (power) "The GND pin has a quiescent current of 45uA at zero load current, increasing by approximately 10uA per mA of output current. At 500mA output current, GND pin current is about 5mA. Current ?ows into the GND pin.", 6 ~{SHDN} (in) "The S\H\D\N\ pin is  specially configured to allow it to be driven from either positive voltage logic or with negative only logic. Forcing the S\H\D\N\ pin 2V either above or below the GND pin will turn the regulator on. This (See Datasheet)", 7 ILIM4 (in) "The two current limit pins are emitter sections of the power transistor. When left open, they float several hundred millivolts  above the negative input voltage. When shorted to the  input voltage, they increase current limit (See Datasheet)", 8 VIN (power) "Power is supplied to the device through this pin. A bypass  capacitor is required on this pin if the device is more than  six inches away from the main filter capacitor. In general, the impedance of a battery rises with (See Datasheet)"